# Altium footprint library ECGLib.PcbLib: 28 footprints (part 1 of 2)
Each footprint in its own frame and in the unit in brackets; x right, y up, seen from the top. Pads: shape width x height; smd on the part's side, far side on the other; paste and mask are expansions set on the pad; w line width, h text height; cw(c..) or ccw(c..) is an arc to the next point about the centre after c.
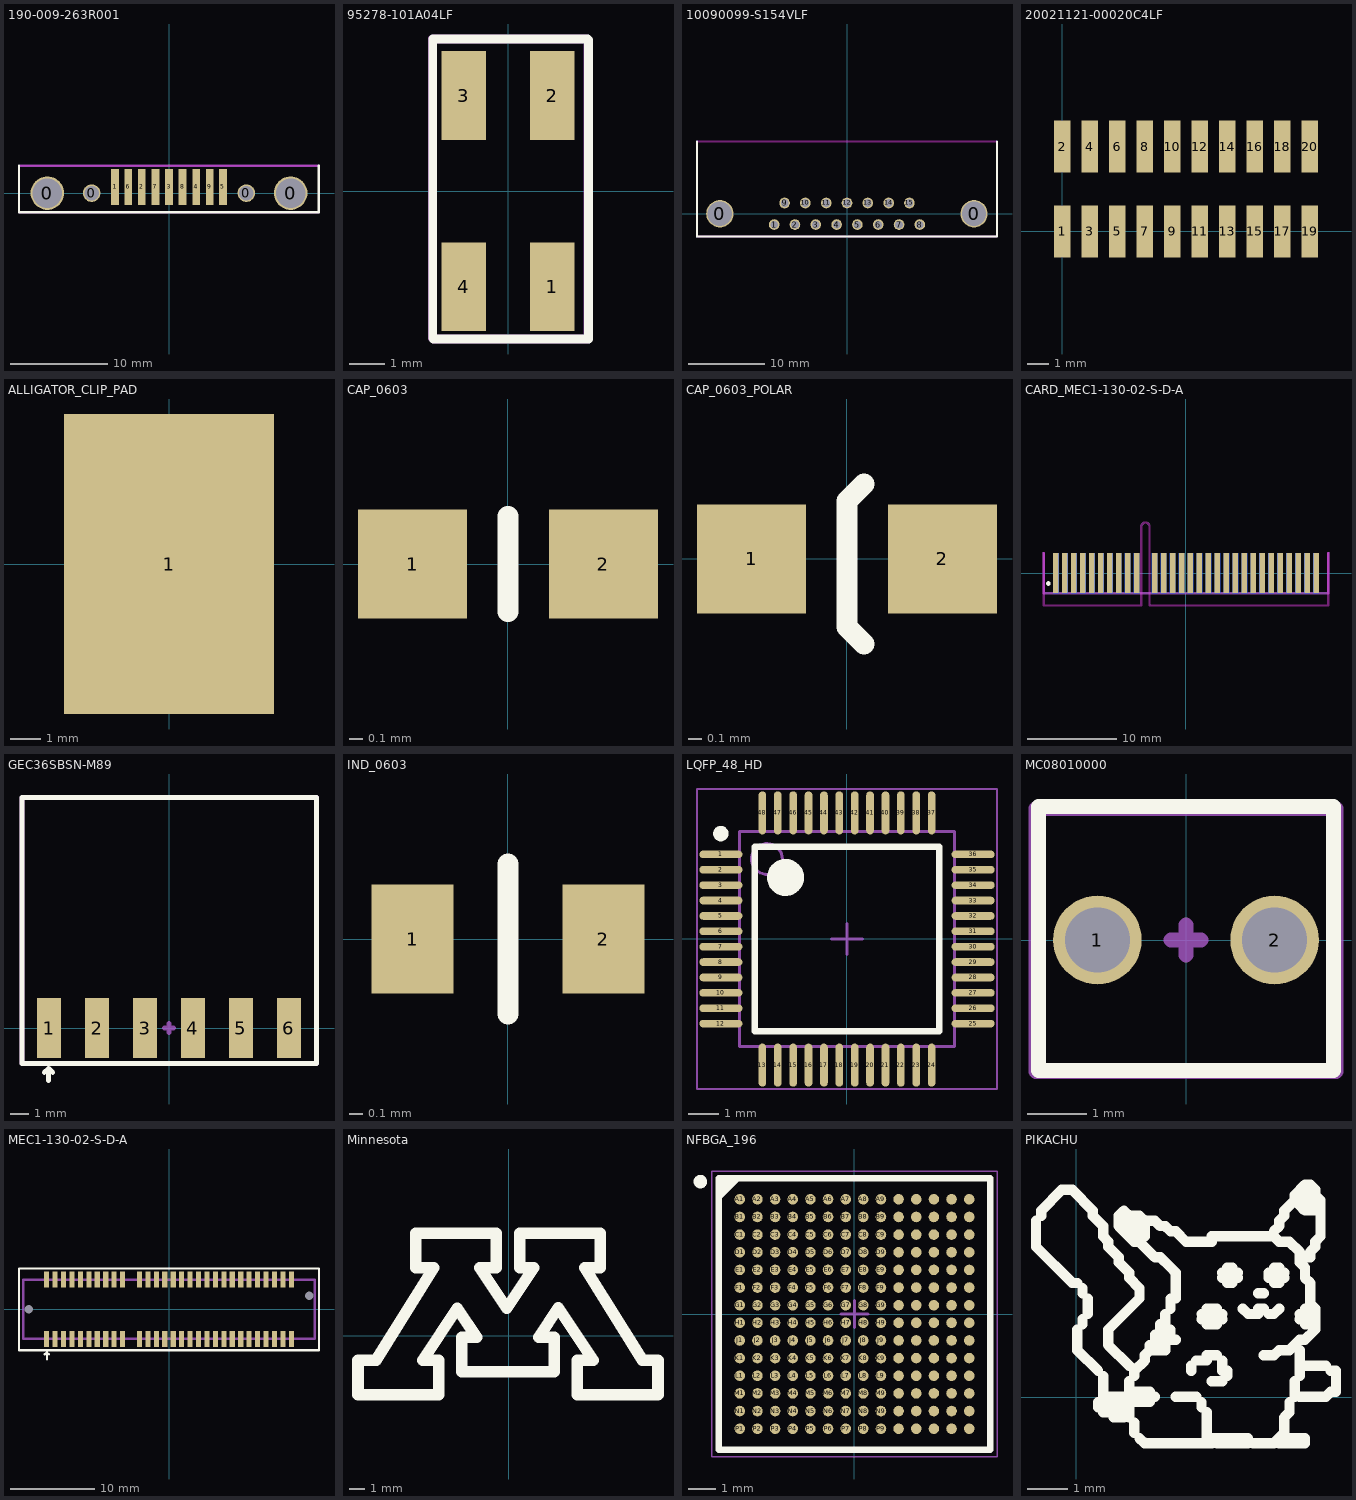
[diagram p0: the footprints below, top view; thin cyan lines are the x and y axes]

## 190-009-263R001 [mm] "CONN DB9 FEMALE R/A SOLDER SMD"
pads (13):
  round 3.45 hole 3.05: 0(-12.495,0) 0(12.495,0)
  round 1.8 hole 1.5: 0(-7.938,0) 0(7.938,0)
  rect 0.8x3.7 smd: 1(-5.54,0.65) 2(-2.794,0.635) 3(0,0.635) 4(2.794,0.635) 5(5.54,0.65) 6(-4.191,0.635) 7(-1.397,0.635) 8(1.397,0.635) 9(4.191,0.635)
Top Overlay:
  lines w0.254: -15.405,2.8 -15.405,-1.945 -15.4,-1.95 15.4,-1.95 15.4,2.795
Keep-Out Layer:
  lines w0.152: -15.405,2.8 15.405,2.8
Mechanical 15:
  lines w0.254: -15.405,-1.95 15.405,-1.95 15.405,2.8 -15.405,2.8 -15.405,-1.95
  text ".Designator" at 0,0 h0.51
3D body: height 10.79, standoff -3.61, extent -15.049,-0.776 15.05,9.843

## 95278-101A04LF [mm] "CONN HEADER 4POS .100\" DL SMD"
pads (4):
  rect 1.27x2.54 smd: 1(1.27,-2.73) 2(1.27,2.73) 3(-1.27,2.73) 4(-1.27,-2.73)
Top Overlay:
  lines w0.254: -2.15,-4.2 -2.15,4.35 2.275,4.35 2.3,4.325 2.3,-4.225 -2.125,-4.225 -2.15,-4.2
Mechanical 15:
  lines w0.254: -2.163,-4.2 -2.163,4.35 2.263,4.35 ; -2.137,-4.225 2.288,-4.225 2.288,4.325
  text ".Designator" at 0,0 h0.76

## 10090099-S154VLF [mm] "CONN DSUB RCPT 15POS R/A GOLD"
pads (17):
  round 3.6 hole 3.2: 0(-16.735,0) 0(16.725,0)
  round 1.4 hole 1: 1(-9.59,-1.42) 2(-6.85,-1.42) 3(-4.11,-1.42) 4(-1.37,-1.42) 5(1.37,-1.42) 6(4.11,-1.42) 7(6.85,-1.42) 8(9.59,-1.42) 9(-8.22,1.42) 10(-5.48,1.42) 11(-2.74,1.42) 12(0,1.42) 13(2.74,1.42) 14(5.48,1.42) 15(8.22,1.42)
Top Overlay:
  lines w0.254: -19.75,9.525 -19.75,-2.995 -19.745,-3 19.745,-3 19.745,9.5
Keep-Out Layer:
  lines w0.254: -19.75,9.525 19.72,9.525
Mechanical 15:
  lines w0.254: -19.75,9.525 -19.75,-3 19.75,-3 19.72,-2.97 19.72,9.525
3D body: height 12.53, standoff -3.8, extent -19.62,-2.925 19.62,15.275

## 20021121-00020C4LF [mm] "CONN HEADER 20POS DL UNSHRD SMD"
pads (20):
  rect 0.76x2.4 smd: 1(0,0) 2(0,3.9) 3(1.27,0) 4(1.27,3.9) 5(2.54,0) 6(2.54,3.9) 7(3.81,0) 8(3.81,3.9) 9(5.08,0) 10(5.08,3.9) 11(6.35,0) 12(6.35,3.9) 13(7.62,0) 14(7.62,3.9) 15(8.89,0) 16(8.89,3.9) 17(10.16,0) 18(10.16,3.9) 19(11.43,0) 20(11.43,3.9)

## ALLIGATOR_CLIP_PAD [mm] "Pad for Alligator Clip on PCB"
pads (1):
  rect 7x10 smd: 1(0,0)

## CAP_0603 [mm]
pads (2):
  rect 0.8x0.8 smd: 1(-0.7,0) 2(0.7,0)
Top Overlay:
  lines w0.152: 0,-0.35 0,0.35
3D body: height 0.45, standoff 0, extent -0.8,-0.4 0.8,0.4

## CAP_0603_POLAR [mm]
pads (2):
  rect 0.8x0.8 smd: 1(-0.7,0) 2(0.7,0)
Top Overlay:
  lines w0.152: 0.125,-0.625 0,-0.5 0,-0.35 0,0.35 0,0.425 0.125,0.55
3D body: height 0.45, standoff 0, extent -0.8,-0.4 0.8,0.4

## CARD_MEC1-130-02-S-D-A [mm] "CONN EDGE CARD DL 1MM 60POS SMD"
pads (58):
  rect 0.61x4.45 smd: 1(-14.5,0) 3(-13.5,0) 5(-12.5,0) 7(-11.5,0) 9(-10.5,0) 11(-9.5,0) 13(-8.5,0) 15(-7.5,0) 17(-6.5,0) 19(-5.5,0) 21(-3.5,0) 23(-2.5,0) 25(-1.5,0) 27(-0.5,0) 29(0.5,0) 31(1.5,0) 33(2.5,0) 35(3.5,0) 37(4.5,0) 39(5.5,0) 41(6.5,0) 43(7.5,0) 45(8.5,0) 47(9.5,0) 49(10.5,0) 51(11.5,0) 53(12.5,0) 55(13.5,0) 57(14.5,0)
  rect 0.61x4.45 smd far side: 2(-14.5,0) 4(-13.5,0) 6(-12.5,0) 8(-11.5,0) 10(-10.5,0) 12(-9.5,0) 14(-8.5,0) 16(-7.5,0) 18(-6.5,0) 20(-5.5,0) 22(-3.5,0) 24(-2.5,0) 26(-1.5,0) 28(-0.5,0) 30(0.5,0) 32(1.5,0) 34(2.5,0) 36(3.5,0) 38(4.5,0) 40(5.5,0) 42(6.5,0) 44(7.5,0) 46(8.5,0) 48(9.5,0) 50(10.5,0) 52(11.5,0) 54(12.5,0) 56(13.5,0) 58(14.5,0)
Top Overlay:
  circle w0.254: c-15.35,-1.15 r0.125
Keep-Out Layer:
  lines w0.254: -15.875,2.225 -15.875,-3.6 -4.982,-3.6 -4.982,5.245 cw(c-4.521,5.185) -4.068,5.289 -4.068,-3.6 15.867,-3.6 15.867,2.225
Mechanical 15:
  lines w0.254: -15.875,2.225 -15.875,-2.225 15.875,-2.225 15.875,2.225

## GEC36SBSN-M89 [mm] "6PIN_0.1\"_RIGHTANGLE_SM"
pads (6):
  rect 1.27x3.18 smd: 1(-6.35,0) 2(-3.81,0) 3(-1.27,0) 4(1.27,0) 5(3.81,0) 6(6.35,0)
Top Overlay:
  lines w0.254: -6.6,-2.35 -6.375,-2.125 ; -6.375,-2.775 -6.375,-2.125 ; -6.15,-2.35 -6.375,-2.125 ; -7.775,-1.875 7.8,-1.875 7.8,12.2 -7.775,12.2 -7.775,-1.875
Mechanical 15:
  lines w0.254: -0.25,0 0.25,0 0,0 ; 0,-0.25 0,0 ; 0,0.25 0,0 ; -7.775,-1.875 -7.775,12.2 7.8,12.2 7.8,-1.875 -7.775,-1.875
3D body: height 3.56, standoff 0, extent 5.08,3.57 7.62,6.11
3D body: height 3.56, standoff 0, extent -7.62,3.57 -5.08,6.11
3D body: height 3.56, standoff 0, extent -5.08,3.57 -2.54,6.11
3D body: height 3.56, standoff 0, extent -2.54,3.57 0,6.11
3D body: height 3.56, standoff 0, extent 0,3.57 2.54,6.11
3D body: height 3.56, standoff 0, extent 2.54,3.57 5.08,6.11
3D body: height 2.1, standoff 1.46, extent -6.67,6.11 -6.03,11.95
3D body: height 2.1, standoff 1.46, extent -4.13,6.11 -3.49,11.95
3D body: height 2.1, standoff 1.46, extent -1.595,6.11 -0.955,11.95
3D body: height 2.1, standoff 1.46, extent 0.95,6.11 1.59,11.95
3D body: height 2.1, standoff 1.46, extent 3.49,6.11 4.13,11.95
3D body: height 2.1, standoff 1.46, extent 6.03,6.11 6.67,11.95
3D body: height 0.64, standoff 0, extent -6.67,-1 -6.03,3.57
3D body: height 0.64, standoff 0, extent -4.13,-1 -3.49,3.57
3D body: height 0.64, standoff 0, extent -1.59,-1 -0.95,3.57
3D body: height 0.64, standoff 0, extent 0.95,-1 1.59,3.57
3D body: height 0.64, standoff 0, extent 3.49,-1 4.13,3.57
3D body: height 0.64, standoff 0, extent 6.03,-1 6.67,3.57

## IND_0603 [mm]
pads (2):
  rect 0.6x0.8 smd: 1(-0.7,0) 2(0.7,0)
Top Overlay:
  lines w0.152: 0,-0.55 0,0.55
3D body: height 0.45, standoff 0, extent -0.8,-0.4 0.8,0.4

## LQFP_48_HD [mm] "TSQFP, 48-Leads, Body 7.00x7.00mm, Pitch 0.50mm, IPC High Density"
height 1.6
pads (48):
  oval 1.4x0.25 smd: 1(-4.1,2.75) 2(-4.1,2.25) 3(-4.1,1.75) 4(-4.1,1.25) 5(-4.1,0.75) 6(-4.1,0.25) 7(-4.1,-0.25) 8(-4.1,-0.75) 9(-4.1,-1.25) 10(-4.1,-1.75) 11(-4.1,-2.25) 12(-4.1,-2.75) 25(4.1,-2.75) 26(4.1,-2.25) 27(4.1,-1.75) 28(4.1,-1.25) 29(4.1,-0.75) 30(4.1,-0.25) 31(4.1,0.25) 32(4.1,0.75) 33(4.1,1.25) 34(4.1,1.75) 35(4.1,2.25) 36(4.1,2.75)
  oval 0.25x1.4 smd: 13(-2.75,-4.1) 14(-2.25,-4.1) 15(-1.75,-4.1) 16(-1.25,-4.1) 17(-0.75,-4.1) 18(-0.25,-4.1) 19(0.25,-4.1) 20(0.75,-4.1) 21(1.25,-4.1) 22(1.75,-4.1) 23(2.25,-4.1) 24(2.75,-4.1) 37(2.75,4.1) 38(2.25,4.1) 39(1.75,4.1) 40(1.25,4.1) 41(0.75,4.1) 42(0.25,4.1) 43(-0.25,4.1) 44(-0.75,4.1) 45(-1.25,4.1) 46(-1.75,4.1) 47(-2.25,4.1) 48(-2.75,4.1)
Top Overlay:
  circle w0.25: c-4.1,3.425 r0.125
  circle w0.6: c-2,2 r0.3
  lines w0.2: -3,-3 -3,3 3,3 3,-3 -3,-3
Mechanical 13:
  circle w0.1: c-2.6,2.6 r0.5
  lines w0.1: -3.5,-3.5 -3.5,3.5 3.5,3.5 3.5,-3.5 -3.5,-3.5
Mechanical 15:
  lines w0.05: -4.875,-4.875 -4.875,4.875 4.875,4.875 4.875,-4.875 -4.875,-4.875
  lines w0.1: -0.5,0 0.5,0 ; 0,-0.5 0,0.5
3D body: height 1.6, standoff 0.05, extent -3.5,-3.5 3.5,3.5

## MC08010000 [mm]
pads (2):
  round 1.5 hole 1.1: 1(-1.5,0) 2(1.5,0)
Top Overlay:
  lines w0.254: -2.5,-2.209 2.5,-2.209 2.5,2.259 -2.5,2.259 -2.5,0 -2.5,-2.209
Mechanical 15:
  lines w0.254: -0.254,0 0,0 ; 0,-0.254 0,-0.064 ; 0,0.254 0,0 ; 0.254,0 0,0 ; -2.54,-2.225 -2.54,2.225 2.54,2.225 2.54,-2.225 -2.54,-2.225
  text ".Designator" at 0.508,1.27 h0.76
3D body: height 12.5, standoff 2, extent -1.996,-1.984 1.996,2

## MEC1-130-02-S-D-A [mil] "CONN EDGE CARD DL 1MM 60POS SMD"
pads (60):
  rect 24x74 smd mask+2: 1(-570.87,-139) 2(-570.87,139) 3(-531.5,-139) 4(-531.5,139) 5(-492.13,-139) 6(-492.13,139) 7(-452.76,-139) 8(-452.76,139) 9(-413.39,-139) 10(-413.39,139) 11(-374.02,-139) 12(-374.02,139) 13(-334.65,-139) 14(-334.65,139) 15(-295.28,-139) 16(-295.28,139) 17(-255.91,-139) 18(-255.91,139) 19(-216.54,-139) 20(-216.54,139) 23(-137.8,-139) 24(-137.8,139) 25(-98.43,-139) 26(-98.43,139) 27(-59.06,-139) 28(-59.06,139) 29(-19.69,-139) 30(-19.69,139) 31(19.68,-139) 32(19.68,139) 33(59.05,-139) 34(59.05,139) 35(98.42,-139) 36(98.42,139) 37(137.79,-139) 38(137.79,139) 39(177.16,-139) 40(177.16,139) 41(216.53,-139) 42(216.53,139) 43(255.9,-139) 44(255.9,139) 45(295.27,-139) 46(295.27,139) 47(334.64,-139) 48(334.64,139) 49(374.01,-139) 50(374.01,139) 51(413.38,-139) 52(413.38,139) 53(452.75,-139) 54(452.75,139) 55(492.12,-139) 56(492.12,139) 57(531.49,-139) 58(531.49,139) 59(570.86,-139) 60(570.86,139)
  round 0 hole 40 unplated: 61(-654.42,0) 62(654.42,62.5)
Top Overlay:
  lines w10: -580,-210 -570,-200 ; -570,-235 -570,-200 ; -560,-210 -570,-200 ; -699.92,-191 699.92,-191 699.92,191 -699.92,191 -699.92,-191
Mechanical 15:
  lines w10: -679.92,-137.5 679.92,-137.5 679.92,137.5 -679.92,137.5 -679.92,-137.5
  text ".Designator" at -300,-20 h60
3D body: height 355.91, standoff -55.09, extent -679.91,-170 679.91,165.07

## Minnesota [mm]
Top Overlay:
  lines w0.762: -9.964,-3.912 -4.63,-3.912 -4.63,-1.626 -5.688,-1.626 -3.402,1.803 -2.132,-0.102 -3.106,-0.102 -3.106,-2.388 2.99,-2.388 2.99,-0.102 1.974,-0.102 3.265,1.835 5.572,-1.626 4.514,-1.626 4.514,-3.912 9.848,-3.912 9.848,-1.626 8.816,-1.626 5.006,4.47 6.038,4.47 6.038,6.756 0.704,6.756 0.704,4.47 1.635,4.47 -0.143,1.803 -1.921,4.47 -0.82,4.47 -0.82,6.756 -6.154,6.756 -6.154,4.47 -4.963,4.47 -8.773,-1.626 -9.964,-1.626 -9.964,-3.912

## NFBGA_196 [mm] "BGA, 196-Leads, Body 10.00x10.00mmx1.30mm, Pitch 0.65mm"
height 1.3
pads (196):
  round 0.39 smd: A1(-4.225,4.225) A2(-3.575,4.225) A3(-2.925,4.225) A4(-2.275,4.225) A5(-1.625,4.225) A6(-0.975,4.225) A7(-0.325,4.225) A8(0.325,4.225) A9(0.975,4.225) A10(1.625,4.225) A11(2.275,4.225) A12(2.925,4.225) A13(3.575,4.225) A14(4.225,4.225) B1(-4.225,3.575) B2(-3.575,3.575) B3(-2.925,3.575) B4(-2.275,3.575) B5(-1.625,3.575) B6(-0.975,3.575) B7(-0.325,3.575) B8(0.325,3.575) B9(0.975,3.575) B10(1.625,3.575) B11(2.275,3.575) B12(2.925,3.575) B13(3.575,3.575) B14(4.225,3.575) C1(-4.225,2.925) C2(-3.575,2.925) C3(-2.925,2.925) C4(-2.275,2.925) C5(-1.625,2.925) C6(-0.975,2.925) C7(-0.325,2.925) C8(0.325,2.925) C9(0.975,2.925) C10(1.625,2.925) C11(2.275,2.925) C12(2.925,2.925) C13(3.575,2.925) C14(4.225,2.925) D1(-4.225,2.275) D2(-3.575,2.275) D3(-2.925,2.275) D4(-2.275,2.275) D5(-1.625,2.275) D6(-0.975,2.275) D7(-0.325,2.275) D8(0.325,2.275) D9(0.975,2.275) D10(1.625,2.275) D11(2.275,2.275) D12(2.925,2.275) D13(3.575,2.275) D14(4.225,2.275) E1(-4.225,1.625) E2(-3.575,1.625) E3(-2.925,1.625) E4(-2.275,1.625) E5(-1.625,1.625) E6(-0.975,1.625) E7(-0.325,1.625) E8(0.325,1.625) E9(0.975,1.625) E10(1.625,1.625) E11(2.275,1.625) E12(2.925,1.625) E13(3.575,1.625) E14(4.225,1.625) F1(-4.225,0.975) F2(-3.575,0.975) F3(-2.925,0.975) F4(-2.275,0.975) F5(-1.625,0.975) F6(-0.975,0.975) F7(-0.325,0.975) F8(0.325,0.975) F9(0.975,0.975) F10(1.625,0.975) F11(2.275,0.975) F12(2.925,0.975) F13(3.575,0.975) F14(4.225,0.975) G1(-4.225,0.325) G2(-3.575,0.325) G3(-2.925,0.325) G4(-2.275,0.325) G5(-1.625,0.325) G6(-0.975,0.325) G7(-0.325,0.325) G8(0.325,0.325) G9(0.975,0.325) G10(1.625,0.325) G11(2.275,0.325) G12(2.925,0.325) G13(3.575,0.325) G14(4.225,0.325) H1(-4.225,-0.325) H2(-3.575,-0.325) H3(-2.925,-0.325) H4(-2.275,-0.325) H5(-1.625,-0.325) H6(-0.975,-0.325) H7(-0.325,-0.325) H8(0.325,-0.325) H9(0.975,-0.325) H10(1.625,-0.325) H11(2.275,-0.325) H12(2.925,-0.325) H13(3.575,-0.325) H14(4.225,-0.325) J1(-4.225,-0.975) J2(-3.575,-0.975) J3(-2.925,-0.975) J4(-2.275,-0.975) J5(-1.625,-0.975) J6(-0.975,-0.975) J7(-0.325,-0.975) J8(0.325,-0.975) J9(0.975,-0.975) J10(1.625,-0.975) J11(2.275,-0.975) J12(2.925,-0.975) J13(3.575,-0.975) J14(4.225,-0.975) K1(-4.225,-1.625) K2(-3.575,-1.625) K3(-2.925,-1.625) K4(-2.275,-1.625) K5(-1.625,-1.625) K6(-0.975,-1.625) K7(-0.325,-1.625) K8(0.325,-1.625) K9(0.975,-1.625) K10(1.625,-1.625) K11(2.275,-1.625) K12(2.925,-1.625) K13(3.575,-1.625) K14(4.225,-1.625) L1(-4.225,-2.275) L2(-3.575,-2.275) L3(-2.925,-2.275) L4(-2.275,-2.275) L5(-1.625,-2.275) L6(-0.975,-2.275) L7(-0.325,-2.275) L8(0.325,-2.275) L9(0.975,-2.275) L10(1.625,-2.275) L11(2.275,-2.275) L12(2.925,-2.275) L13(3.575,-2.275) L14(4.225,-2.275) M1(-4.225,-2.925) M2(-3.575,-2.925) M3(-2.925,-2.925) M4(-2.275,-2.925) M5(-1.625,-2.925) M6(-0.975,-2.925) M7(-0.325,-2.925) M8(0.325,-2.925) M9(0.975,-2.925) M10(1.625,-2.925) M11(2.275,-2.925) M12(2.925,-2.925) M13(3.575,-2.925) M14(4.225,-2.925) N1(-4.225,-3.575) N2(-3.575,-3.575) N3(-2.925,-3.575) N4(-2.275,-3.575) N5(-1.625,-3.575) N6(-0.975,-3.575) N7(-0.325,-3.575) N8(0.325,-3.575) N9(0.975,-3.575) N10(1.625,-3.575) N11(2.275,-3.575) N12(2.925,-3.575) N13(3.575,-3.575) N14(4.225,-3.575) P1(-4.225,-4.225) P2(-3.575,-4.225) P3(-2.925,-4.225) P4(-2.275,-4.225) P5(-1.625,-4.225) P6(-0.975,-4.225) P7(-0.325,-4.225) P8(0.325,-4.225) P9(0.975,-4.225) P10(1.625,-4.225) P11(2.275,-4.225) P12(2.925,-4.225) P13(3.575,-4.225) P14(4.225,-4.225)
Top Overlay:
  circle w0.25: c-5.677,4.877 r0.125
  region: -4.33,5 -5,4.33 -5,5
  lines w0.254: -5,4.33 -4.33,5 ; -5,-5 5,-5 5,5 -5,5 -5,-5
Mechanical 13:
  lines w0.1: -5,-5 5,-5 5,5 -5,5 -5,-5
Mechanical 15:
  lines w0.05: -5.25,-5.25 5.25,-5.25 5.25,5.25 -5.25,5.25 -5.25,-5.25
  lines w0.1: -0.5,0 0.5,0 ; 0,-0.5 0,0.5
3D body: height 1.3, standoff 0.1, extent -5,-5 5,5

## PIKACHU [mm]
Top Overlay:
  drawing of 362 lines, arcs and shapes, not listed